# EAGLE library part 105450-0101 (library 105450-0101)
USB Shielded I/O Receptacle; Type C; Right Angle; Surface Mount; Gold over Nickel
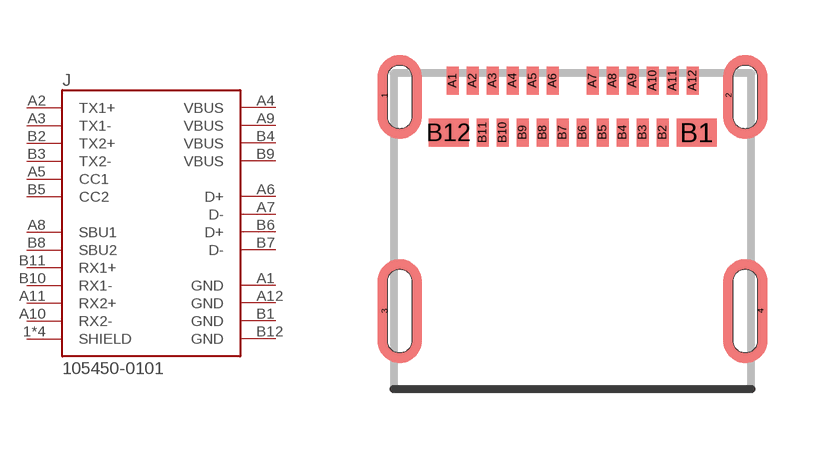
[diagram p0: symbol with the pads of MOLEX_105450-0101; footprint MOLEX_105450-0101]

Designator prefix J

## 105450-0101 (DESCRIPTION: USB Shielded I/O Receptacle; Type C; Right Angle; Surface Mount; Gold over Nickel; DIGI-KEY_PART_NUMBER: WM12856CT-ND; DIGI-KEY_PURCHASE_URL: https://www.digikey.com/product-detail/en/molex-llc/1054500101/WM12856CT-ND/5843891?utm_source=snapeda&utm_medium=aggregator&utm_campaign=symbol; MF: Molex; MP: 1054500101; PACKAGE: None)  [MOLEX_105450-0101]
1  SHIELD  pwr
2  SHIELD  pwr
3  SHIELD  pwr
4  SHIELD  pwr
A1  GND  pwr
A2  TX1+
A3  TX1-
A4  VBUS  pwr
A5  CC1
A6  D+
A7  D-
A8  SBU1
A9  VBUS  pwr
A10  RX2-
A11  RX2+
A12  GND  pwr
B1  GND  pwr
B2  TX2+
B3  TX2-
B4  VBUS  pwr
B5  CC2
B6  D+
B7  D-
B8  SBU2
B9  VBUS  pwr
B10  RX1-
B11  RX1+
B12  GND  pwr

## Footprint MOLEX_105450-0101 (pad centres in mm)
smd 0.1 x 0.2: 1 -4.7,3.4; 2 3.9,3.4; 3 -4.7,-2; 4 4.7,-2
smd 0.3 x 0.7: A1 -3,3.77; A2 -2.5,3.77; A3 -2,3.77; A4 -1.5,3.77; A5 -1,3.77; A6 -0.5,3.77; A7 0.5,3.77; A8 1,3.77; A9 1.5,3.77; A10 2,3.77; A11 2.5,3.77; A12 3,3.77; B2 2.25,2.47; B3 1.75,2.47; B4 1.25,2.47; B5 0.75,2.47; B6 0.25,2.47; B7 -0.25,2.47; B8 -0.75,2.47; B9 -1.25,2.47; B10 -1.75,2.47; B11 -2.25,2.47
smd 1 x 0.7: B1 3.1,2.47; B12 -3.1,2.47